# Altium footprint library snes_hook_parts.PcbLib: 27 footprints (part 1 of 2)
Each footprint in its own frame and in the unit in brackets; x right, y up, seen from the top. Pads: shape width x height; smd on the part's side, far side on the other; paste and mask are expansions set on the pad; w line width, h text height; cw(c..) or ccw(c..) is an arc to the next point about the centre after c.
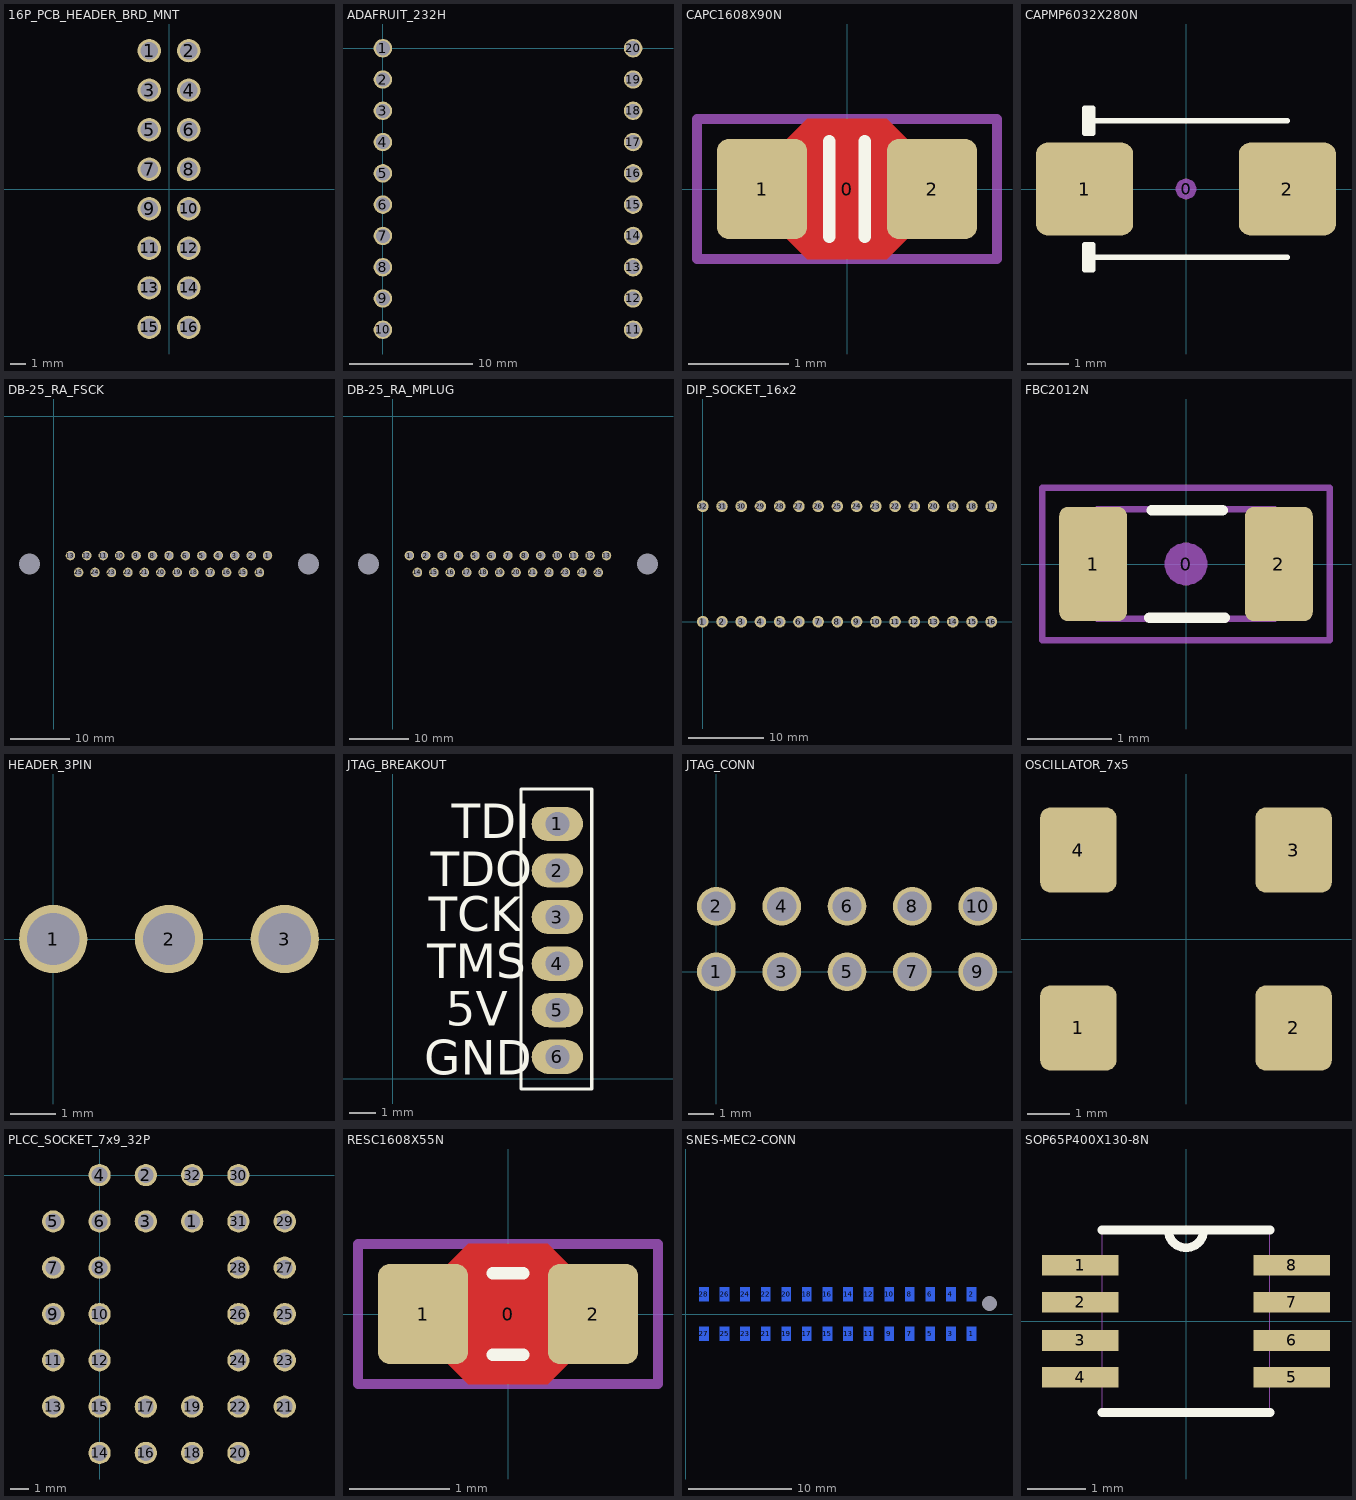
[diagram p0: the footprints below, top view; thin cyan lines are the x and y axes]

## 16P_PCB_HEADER_BRD_MNT [mil] "HEADER BRD MNT 16POS 2.54MM"
height 390
pads (16):
  round 59 hole 45: 1(-50,350) 2(50,350) 3(-50,250) 4(50,250) 5(-50,150) 6(50,150) 7(-50,50) 8(50,50) 9(-50,-50) 10(50,-50) 11(-50,-150) 12(50,-150) 13(-50,-250) 14(50,-250) 15(-50,-350) 16(50,-350)
Mechanical 13:
  drawing of 192 lines, arcs and shapes, not listed
3D body "61301621121.stp": height 336.22, standoff -118.11, extent -102,-401 98,399

## ADAFRUIT_232H [mil]
pads (20):
  round 59 hole 45: 1(0,0) 2(0,-100) 3(0,-200) 4(0,-300) 5(0,-400) 6(0,-500) 7(0,-600) 8(0,-700) 9(0,-800) 10(0,-900) 11(800,-900) 12(800,-800) 13(800,-700) 14(800,-600) 15(800,-500) 16(800,-400) 17(800,-300) 18(800,-200) 19(800,-100) 20(800,0)
Mechanical 13:
  drawing of 240 lines, arcs and shapes, not listed
3D body "10pinsck.stp": height 342.32, standoff -114.82, extent 755,-959.69 853.43,60
3D body "10pinsck.stp": height 342.32, standoff -114.82, extent -48,-961 50.43,58.69
3D body "Part2.STEP": height 404.2, standoff 342, extent -47,-1236 853,264
3D body "Micro USB B-type mid-mount FCI.STEP": height 509.65, standoff 388.79, extent 200.23,-1247.5 613.62,-975.14

## CAPC1608X90N [mm] "Chip Capacitor, Body 1.6x0.8mm, EIA 0603, IPC Medium Density"
height 0.9
pads (3):
  round 0.254 on Mech15: 0(0,0)
  rrect25% 0.9x1 smd: 1(-0.85,0) 2(0.85,0)
Top Layer:
  pour cut-out: -0.6,0.5 -0.4,0.7 0.4,0.7 0.6,0.5 0.6,-0.5 0.4,-0.7 -0.4,-0.7 -0.6,-0.5
Top Overlay:
  lines w0.127: -0.178,-0.476 -0.178,0.476 ; 0.178,-0.476 0.178,0.476
Mechanical 13:
  lines w0.05: -0.55,-0.43 0.55,-0.43 ; -0.55,0.43 0.55,0.43 ; -0.85,-0.45 -0.55,-0.45 -0.55,0.45 -0.85,0.45 -0.85,-0.45 ; 0.55,-0.45 0.85,-0.45 0.85,0.45 0.55,0.45 0.55,-0.45
Mechanical 15:
  lines w0.1: -1.5,-0.7 1.5,-0.7 1.5,0.7 -1.5,0.7 -1.5,-0.7
3D body "CAP_0603.STEP": height 0.89, standoff -0.01, extent -0.85,-0.45 0.85,0.45

## CAPMP6032X280N [mm] "Capacitor, polarized, Molded Body, EIA 535BAAC size C; 6.00mm L X 3.20mm W X 2.80mm H"
height 2.8
pads (3):
  round 0.508 on Mech15: 0(0,0)
  rrect25% 2.35x2.25 smd: 1(-2.45,0) 2(2.45,0)
Top Overlay:
  lines w0.127: -2.45,-1.65 2.45,-1.65 ; -2.45,1.65 2.45,1.65 ; -2.35,-1.95 -2.35,-1.65 -2.35,-1.35 ; -2.35,1.35 -2.35,1.65 -2.35,1.95 ; -2.45,-1.95 -2.45,-1.35 -2.25,-1.35 -2.25,-1.65 -2.25,-1.95 -2.45,-1.95 ; -2.45,1.35 -2.45,1.95 -2.25,1.95 -2.25,1.65 -2.25,1.35 -2.45,1.35
3D body: height 2.8, standoff 0, extent -3,-1.6 3,1.6

## DB-25_RA_FSCK [mm]
pads (27):
  round 1.6 hole 1.2: 1(36,-23.5) 2(33.25,-23.51) 3(30.48,-23.51) 4(27.71,-23.51) 5(24.94,-23.51) 6(22.17,-23.51) 7(19.4,-23.51) 8(16.63,-23.51) 9(13.86,-23.51) 10(11.09,-23.51) 11(8.32,-23.51) 12(5.55,-23.51) 13(2.78,-23.51) 14(34.635,-26.35) 15(31.865,-26.35) 16(29.095,-26.35) 17(26.325,-26.35) 18(23.555,-26.35) 19(20.785,-26.35) 20(18.015,-26.35) 21(15.245,-26.35) 22(12.475,-26.35) 23(9.705,-26.35) 24(6.935,-26.35) 25(4.165,-26.35)
  round 1.524 hole 3.5 unplated: ""(-4.12,-24.93) ""(42.92,-24.93)
3D body "TE_conn_DB_25.stp": height 12.75, standoff -3.85, extent -7.22,-40.36 45.88,-21.86

## DB-25_RA_MPLUG [mm]
pads (27):
  round 1.6 hole 1.2: 1(2.78,-23.5) 2(5.53,-23.51) 3(8.3,-23.51) 4(11.07,-23.51) 5(13.84,-23.51) 6(16.61,-23.51) 7(19.38,-23.51) 8(22.15,-23.51) 9(24.92,-23.51) 10(27.69,-23.51) 11(30.46,-23.51) 12(33.23,-23.51) 13(36,-23.51) 14(4.145,-26.35) 15(6.915,-26.35) 16(9.685,-26.35) 17(12.455,-26.35) 18(15.225,-26.35) 19(17.995,-26.35) 20(20.765,-26.35) 21(23.535,-26.35) 22(26.305,-26.35) 23(29.075,-26.35) 24(31.845,-26.35) 25(34.615,-26.35)
  round 1.524 hole 3.5 unplated: ""(-4.12,-24.93) ""(42.92,-24.93)
3D body "182-025-113.STEP": height 12.55, standoff -3.17, extent -7.163,-40.589 45.872,-21.438

## DIP_SOCKET_16x2 [mil]
pads (32):
  round 60 hole 39: 1(0,0) 2(100,0) 3(200,0) 4(300,0) 5(400,0) 6(500,0) 7(600,0) 8(700,0) 9(800,0) 10(900,0) 11(1000,0) 12(1100,0) 13(1200,0) 14(1300,0) 15(1400,0) 16(1500,0) 17(1500,600) 18(1400,600) 19(1300,600) 20(1200,600) 21(1100,600) 22(1000,600) 23(900,600) 24(800,600) 25(700,600) 26(600,600) 27(500,600) 28(400,600) 29(300,600) 30(200,600) 31(100,600) 32(0,600)
3D body "c-1825276-2-a-3d.stp": height 106, standoff -225, extent -47.51,-47 1547.49,647

## FBC2012N [mm] "Ferrite Bead Chip, Body 2.0x1.2mm, 0805, IPC Medium Density"
height 0.9
pads (3):
  round 0.508 on Mech15: 0(0,0)
  rrect25% 0.8x1.35 smd: 1(-1.1,0) 2(1.1,0)
Top Overlay:
  lines w0.127: -0.432,-0.635 0.457,-0.635 ; -0.406,0.635 0.432,0.635
Mechanical 13:
  lines w0.076: -1.05,-0.65 -1.05,0.65 1.05,0.65 1.05,-0.65 -1.05,-0.65
Mechanical 15:
  lines w0.076: -1.7,-0.9 -1.7,0.9 1.7,0.9 1.7,-0.9 -1.7,-0.9
3D body "FBC_0805.stp": height 0.9, standoff 0, extent -1,-0.625 1,0.625

## HEADER_3PIN [mm]
pads (3):
  round 1.5 hole 1.143: 1(0,0) 2(2.54,0) 3(5.08,0)
3D body "3pin.stp": height 8.54, standoff -3, extent -1.27,-1.27 6.35,1.27

## JTAG_BREAKOUT [mil] "Small DAQ breakout for hookup to breadboard section"
pads (6):
  oval 75x50 hole 35: 1(240,372) 2(240,304) 3(240,236) 4(240,168) 5(240,100) 6(240,32)
Top Overlay:
  lines w5: 187,-15 187,423 290,423 290,-15 187.28,-15
  text "TDI" at 86,351 h50
  text "TDO" at 55,281 h50
  text "GND" at 46,6 h50
  text "5V" at 77,77 h50
  text "TMS" at 50,147 h50
  text "TCK" at 52,215 h50

## JTAG_CONN [mm]
pads (10):
  round 1.5 hole 1.143: 1(0,0) 2(0,2.54) 3(2.54,0) 4(2.54,2.54) 5(5.08,0) 6(5.08,2.54) 7(7.62,0) 8(7.62,2.54) 9(10.16,0) 10(10.16,2.54)
3D body "877581016.stp": height 8.54, standoff -3, extent -1.27,-1.27 11.43,3.81

## OSCILLATOR_7x5 [mm] "SMD Crystal 4-lead leadless package"
height 0.55
pads (4):
  rrect25% 1.8x2 smd mask+0.075: 1(-2.54,-2.1) 2(2.54,-2.1) 3(2.54,2.1) 4(-2.54,2.1)
3D body "ASVK.STEP": height 1.65, standoff 0.05, extent -3.55,-2.5 3.45,2.5

## PLCC_SOCKET_7x9_32P [mil]
pads (32):
  round 48 hole 34: 1(200,-100) 2(100,0) 3(100,-100) 4(0,0) 5(-100,-100) 6(0,-100) 7(-100,-200) 8(0,-200) 9(-100,-300) 10(0,-300) 11(-100,-400) 12(0,-400) 13(-100,-500) 14(0,-600) 15(0,-500) 16(100,-600) 17(100,-500) 18(200,-600) 19(200,-500) 20(300,-600) 21(400,-500) 22(300,-500) 23(400,-400) 24(300,-400) 25(400,-300) 26(300,-300) 27(400,-200) 28(300,-200) 29(400,-100) 30(300,0) 31(300,-100) 32(200,0)
3D body "8432-11b1-01.stp": height 330, standoff -120, extent -203,-712.03 517,108.03

## RESC1608X55N [mm] "Chip Resistor, Body 1.6x0.8mm, EIA 0603, IPC Medium Density"
height 0.55
pads (3):
  round 0.254 on Mech15: 0(0,0)
  rrect25% 0.9x1 smd: 1(-0.85,0) 2(0.85,0)
Top Layer:
  pour cut-out: -0.6,0.5 -0.4,0.7 0.4,0.7 0.6,0.5 0.6,-0.5 0.4,-0.7 -0.4,-0.7 -0.6,-0.5
Top Overlay:
  lines w0.127: -0.152,-0.406 0.152,-0.406 ; -0.152,0.406 0.152,0.406
Mechanical 13:
  lines w0.05: -0.875,-0.475 -0.475,-0.475 -0.475,0.475 -0.875,0.475 -0.875,-0.475 ; -0.475,-0.474 0.475,-0.474 -0.475,-0.474 ; -0.475,0.474 0.475,0.474 -0.475,0.474 ; 0.475,-0.475 0.475,0.475 0.875,0.475 0.875,-0.475 0.475,-0.475
Mechanical 15:
  lines w0.1: -1.5,-0.7 -1.5,0.7 1.5,0.7 1.5,-0.7 -1.5,-0.7
3D body "RES 0603 (1608 metric).STEP": height 0.54, standoff -0.01, extent -0.875,-0.475 0.875,0.475

## SNES-MEC2-CONN [mm] "Male connector for the EXT socket on the SNES"
pads (29):
  rect 0.9x1.35 smd far side: 1(27.75,-1.9) 2(27.75,1.9) 3(25.75,-1.9) 4(25.75,1.9) 5(23.75,-1.9) 6(23.75,1.9) 7(21.75,-1.9) 8(21.75,1.9) 9(19.75,-1.9) 10(19.75,1.9) 11(17.75,-1.9) 12(17.75,1.9) 13(15.75,-1.9) 14(15.75,1.9) 15(13.75,-1.9) 16(13.75,1.9) 17(11.75,-1.9) 18(11.75,1.9) 19(9.75,-1.9) 20(9.75,1.9) 21(7.75,-1.9) 22(7.75,1.9) 23(5.75,-1.9) 24(5.75,1.9) 25(3.75,-1.9) 26(3.75,1.9) 27(1.75,-1.9) 28(1.75,1.9)
  round 0 hole 1.45: ""(29.5,1)
Bottom Overlay:
  text "28" at -0.425,3.125 h1.52
  text "1" at 29.875,-4.575 h1.52
3D body: height 5, standoff 0, extent 1.3,-2.575 30.4,2.575

## SOP65P400X130-8N [mil]
pads (8):
  rect 52x14 smd paste-1000 mask-1000: 1(-72,38) 2(-72,13) 3(-72,-13) 4(-72,-38) 5(72,-38) 6(72,-13) 7(72,13) 8(72,38)
Top Overlay:
  lines w6: -57,-62 57,-62 ; -57,62 -12,62 ; 57,62 12,62 ; -12,62 ccw(c0,62) 12,62 ; -12,62 12,62
Top Paste:
  region: -98,31 -46,31 -46,45 -98,45
  region: -98,6 -46,6 -46,20 -98,20
  region: -98,-20 -46,-20 -46,-6 -98,-6
  region: -98,-45 -46,-45 -46,-31 -98,-31
  region: 46,-45 98,-45 98,-31 46,-31
  region: 46,-20 98,-20 98,-6 46,-6
  region: 46,6 98,6 98,20 46,20
  region: 46,31 98,31 98,45 46,45
Top Solder:
  region: -101.94,27.06 -42.06,27.06 -42.06,48.94 -101.94,48.94
  region: -101.94,2.06 -42.06,2.06 -42.06,23.94 -101.94,23.94
  region: -101.94,-23.94 -42.06,-23.94 -42.06,-2.06 -101.94,-2.06
  region: -101.94,-48.94 -42.06,-48.94 -42.06,-27.06 -101.94,-27.06
  region: 42.06,-48.94 101.94,-48.94 101.94,-27.06 42.06,-27.06
  region: 42.06,-23.94 101.94,-23.94 101.94,-2.06 42.06,-2.06
  region: 42.06,2.06 101.94,2.06 101.94,23.94 42.06,23.94
  region: 42.06,27.06 101.94,27.06 101.94,48.94 42.06,48.94
Mechanical 1:
  lines w0: -12,62 ccw(c0,62) 12,62 ; -12,62 12,62 ; -12,62 -57,62 -57,-62 57,-62 57,62 12,62 ; -84,-44 -84,-32 -57,-32 -57,-44 -84,-44 ; -84,-19 -84,-7 -57,-7 -57,-19 -84,-19 ; -84,7 -84,19 -57,19 -57,7 -84,7 ; -84,32 -84,44 -57,44 -57,32 -84,32 ; 57,-44 57,-32 84,-32 84,-44 57,-44 ; 57,-19 57,-7 84,-7 84,-19 57,-19 ; 57,7 57,19 84,19 84,7 57,7 ; 57,32 57,44 84,44 84,32 57,32